# Altium footprint library A-1010S.PcbLib: 1 footprints
Each footprint in its own frame and in the unit in brackets; x right, y up, seen from the top. Pads: shape width x height; smd on the part's side, far side on the other; paste and mask are expansions set on the pad; w line width, h text height; cw(c..) or ccw(c..) is an arc to the next point about the centre after c.
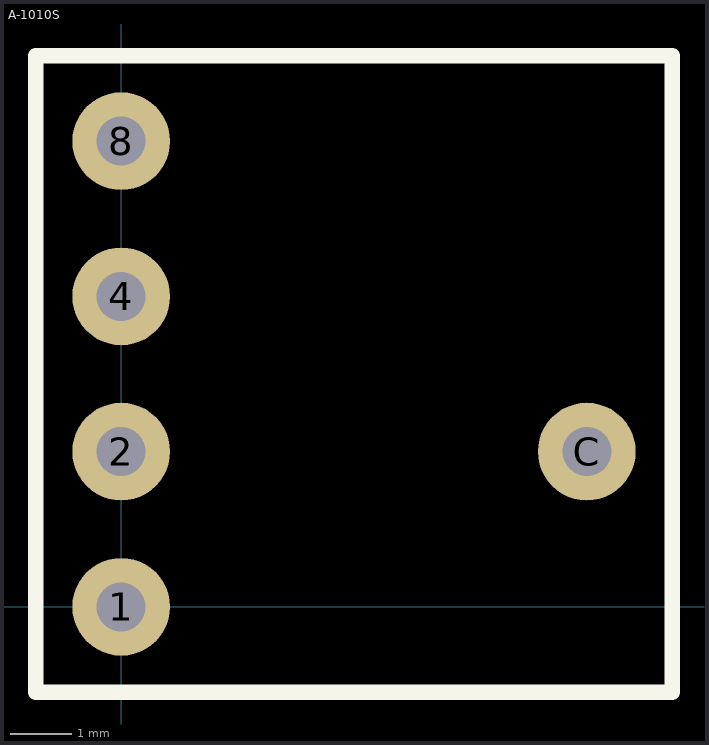
[diagram p0: the footprint, top view; thin cyan lines are the x and y axes]

## A-1010S [mm]
pads (5):
  round 1.6 hole 0.8: 1(0,0) 2(0,2.54) 4(0,5.08) 8(0,7.62) C(7.62,2.54)
Top Overlay:
  lines w0.254: -1.397,-1.397 -1.397,9.017 9.017,9.017 9.017,-1.397 -1.397,-1.397
3D body "S-1010A.STEP": height 6.81, standoff -3.99, extent -1.29,-1.27 8.91,8.93